# Altium schematic symbol library Conn,JST,3Pin,1.5mm,Thru.Schlib: 1 symbol
Pins are listed as number, name and electrical type; pins without a type are passive.

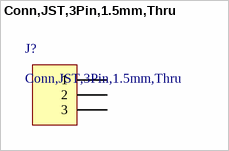
[diagram p0: symbol Conn,JST,3Pin,1.5mm,Thru]

## Conn,JST,3Pin,1.5mm,Thru
designator J?
Connector Header Through Hole, Right Angle 3 position 0.059" (1.50mm)
pins: 1, 2, 3